# EAGLE library part 74LVC3G34 (library OSSC_HDMI_Audio)
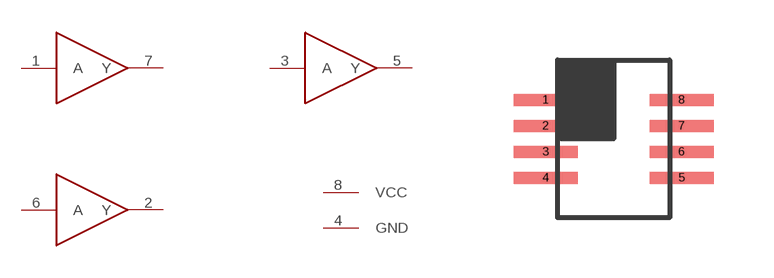
[diagram p2: symbol with the pads of 74LVC3G34; footprint 74LVC3G34]

Designator prefix -; gates G$1=1G34 G$2=1G34 G$3=1G34 G$4=PWR

## 74LVC3G34  [74LVC3G34]
1  G$1:A
2  G$3:Y
3  G$2:A
4  G$4:GND
5  G$2:Y
6  G$3:A
7  G$1:Y
8  G$4:VCC

## Footprint 74LVC3G34 (pad centres in mm)
smd 1.6 x 0.3: 1 -1.7,0.975; 2 -1.7,0.325; 3 -1.7,-0.325; 4 -1.7,-0.975; 5 1.7,-0.975; 6 1.7,-0.325; 7 1.7,0.325; 8 1.7,0.975